# Altium schematic symbol library ADuM4160.SCHLIB: 1 symbol
Pins are listed as number, name and electrical type; pins without a type are passive.

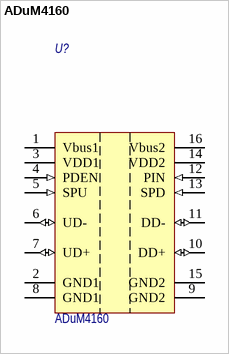
[diagram p0: symbol ADuM4160]

## ADuM4160
designator U?
Quad Channel Digital Isolator, 2.5 KV rms Insulation Rating; Назначение: цифровой изолятор шины USB; Потребление, Вт: 0,025; DataSheet: https://www.analog.com/media/en/technical-documentation/data-sheets/ADuM4160.pdf; UserGuide: https://www.analog.com/media/en/reference-design-documentation/reference-designs/CN0160.pdf; Наименование: ADuM4160
footprint SOIC-16-WIDE (SOIC, 16-Leads, Body 10.3x7.5mm, Pitch 1.27mm, IPC Medium Density)
pins: 1 Vbus1 (power) "No Connect.", 2 GND1 (power) "Ground 1. Ground reference for Isolator Side 1.", 3 VDD1 (power) "Supply Voltage for Isolator Side 1.", 4 PDEN (in) "Logic Input A.", 5 SPU (in) "Logic Input B.", 6 UD- (io) "Logic Input C.", 7 UD+ (io) "Logic Input D.", 8 GND1 (power) "Ground 1. Ground reference for Isolator Side 1.", 9 GND2 (power) "Ground 2. Ground reference for Isolator Side 2.", 10 DD+ (io) "Logic Output D.", 11 DD- (io) "Logic Output C.", 12 PIN (in) "Logic Output B.", 13 SPD (in) "Logic Output A.", 14 VDD2 (power) "Supply Voltage for Isolator Side 2.", 15 GND2 (power) "Ground 2. Ground reference for Isolator Side 2.", 16 Vbus2 (power) "Output Enable 2. Active high logic input. VOA, VOB, VOC, and VOD outputs are enabled when VE2 is high or disconnected. VOA, VOB, VOC, and VOD outputs are disabled when VE2 is low. In noisy environments, connecting VE2 to an (See Datasheet)"